# Altium integrated library S900557.IntLib: 1 symbol
Pins are listed as number, name and electrical type; pins without a type are passive.

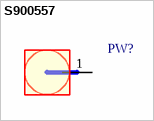
[diagram p0: symbol S900557]

## S900557
designator PW?  (value not drawn)
Powerelement, PowerPlus, Male, M8, Straight, 16 Pins, LxW 15,4x15,4 mm, Height w/o pins 31, ???, S900557; Manufacturer: Würth Elektronik ICS; Rated Current 20°C: 360 A; Rated Current 85°C: 260 A; Surface: tin; Connection Type: Screw; ComponentLink: P:\projekt\9\90\904\90419\13_Zeichnungen\1_Fertigungszeichnung\K90419-B Powerel. Buchse-v.pdf; Max Operating Temperature: +150 °C; Min Operating Temperature: -40 °C; Height with pins: 36.00; Height without pins: 31.00; Material: CuZn37; Manufacturer Part Number: S900557; Termination: Press Fit; Pin Count: 16; Diameter: M8; Dimensions: 15,4x15,4 mm; Leadfree: Yes; Drill Pattern: ???; Family_PE: PowerPlus; Shape: Straight; Gender: Male; Name: S900557; Publishing date: 20221013
footprint S900557 (Powerelement, PowerPlus, Male, M8, Straight, 16 Pins, LxW 15,4x15,4 mm, Height w/o pins 31, ???, S900557)
pins: 1